# Altium footprint library SCNano-lib.PcbLib: 30 footprints (part 2 of 2)
Each footprint in its own frame and in the unit in brackets; x right, y up, seen from the top. Pads: shape width x height; smd on the part's side, far side on the other; paste and mask are expansions set on the pad; w line width, h text height; cw(c..) or ccw(c..) is an arc to the next point about the centre after c.
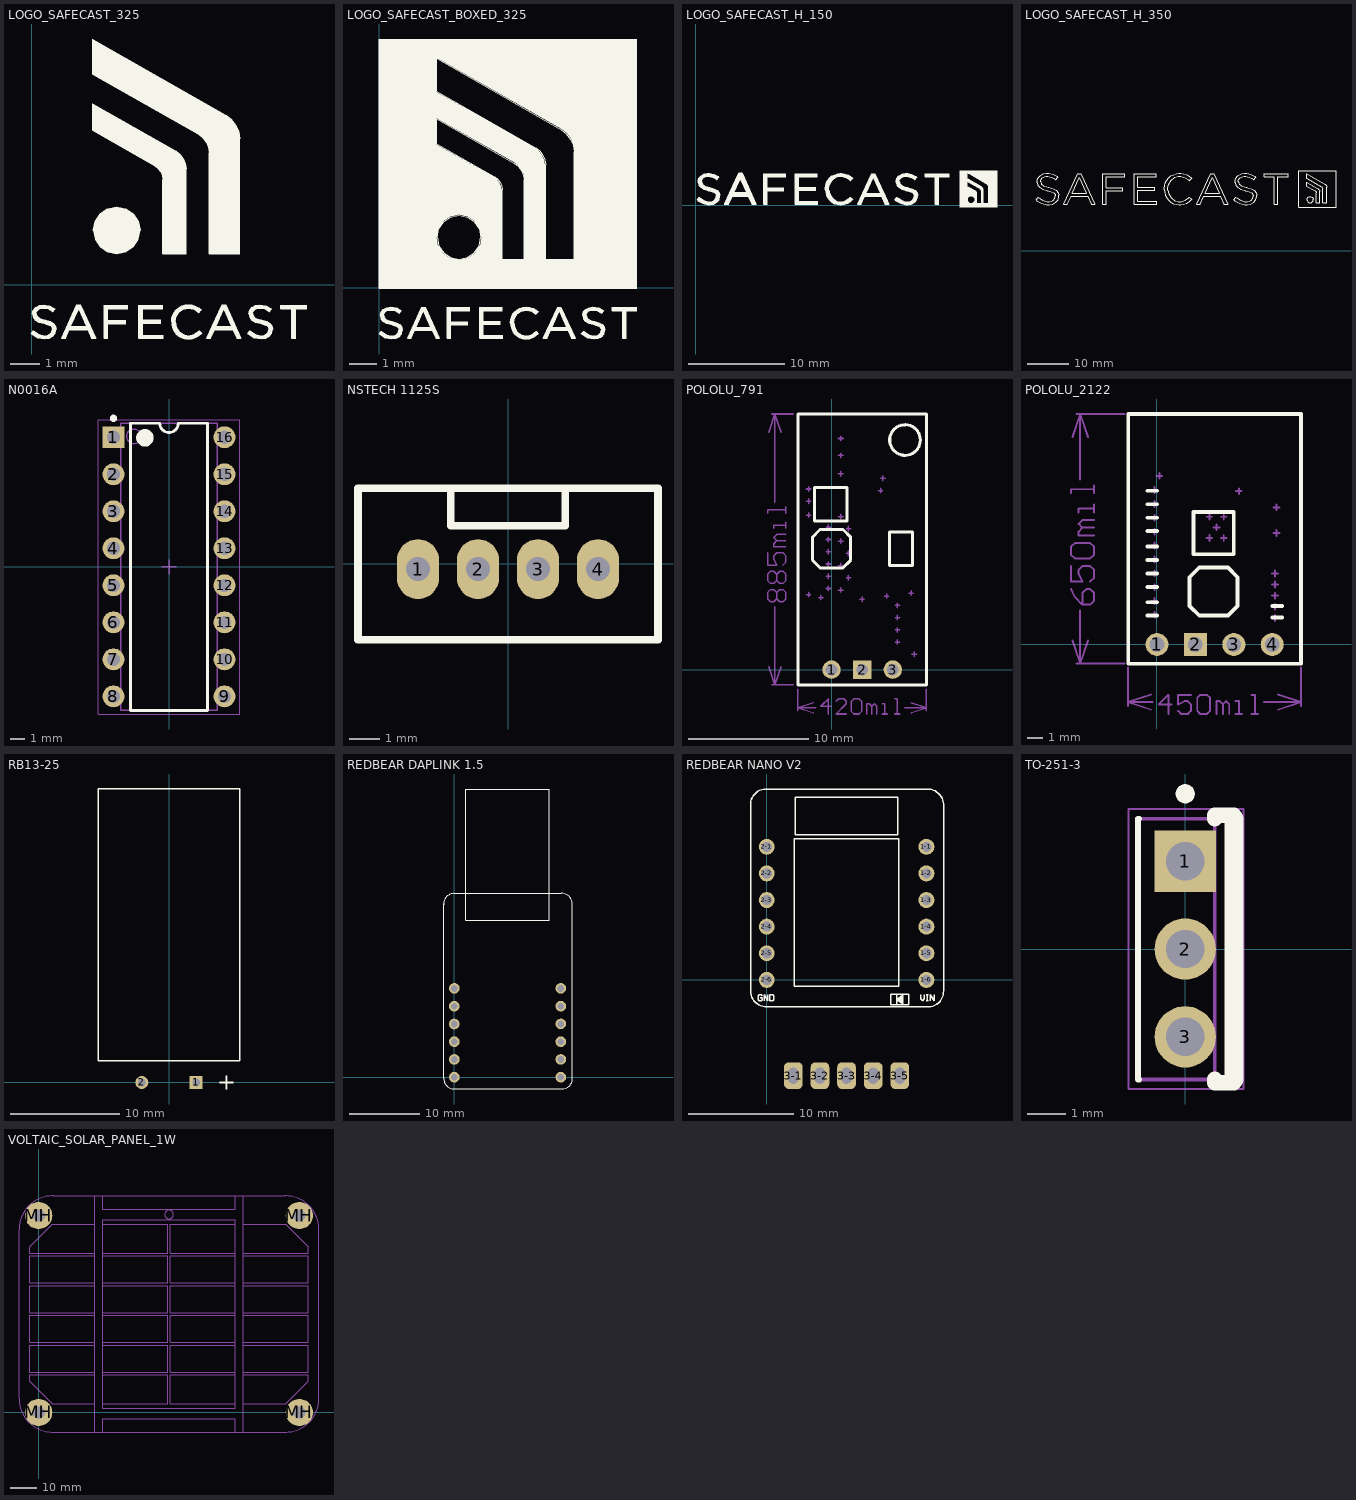
[diagram p1: the footprints below, top view; thin cyan lines are the x and y axes]

## LOGO_SAFECAST_325 [mil] "Safecast Logo appx 325 mil wide"
Top Overlay:
  drawing of 253 lines, arcs and shapes, not listed

## LOGO_SAFECAST_BOXED_325 [mil] "Boxed Safecast Logo  appx 325 mil wide"
Top Overlay:
  drawing of 255 lines, arcs and shapes, not listed

## LOGO_SAFECAST_H_150 [mil] "Safecast Logo Horizontal appx 150 tall"
Top Overlay:
  drawing of 284 lines, arcs and shapes, not listed

## LOGO_SAFECAST_H_350 [mil] "Safecast Logo Horizontal appx 350 tall"
Top Overlay:
  drawing of 318 lines, arcs and shapes, not listed

## MOLEX_146185-0100 [mil] "Cellular Quad-band Flex Antenna, 15.00mm Width, Cable Length 100.00mm"
3D body "1461850100.stp": height 235.93, standoff 151.29, extent -1653.54,-53.15 1653.54,4303.15

## N0016A [mm] "DIP, 16-Leads, Body 19.7x6.6mm, Pitch 2.54mm"
height 5.08
pads (16):
  rect 1.5x1.5 hole 0.9: 1(-3.81,8.89)
  round 1.5 hole 0.9: 2(-3.81,6.35) 3(-3.81,3.81) 4(-3.81,1.27) 5(-3.81,-1.27) 6(-3.81,-3.81) 7(-3.81,-6.35) 8(-3.81,-8.89) 9(3.81,-8.89) 10(3.81,-6.35) 11(3.81,-3.81) 12(3.81,-1.27) 13(3.81,1.27) 14(3.81,3.81) 15(3.81,6.35) 16(3.81,8.89)
Top Overlay:
  circle w0.6: c-1.65,8.85 r0.3
  circle w0.25: c-3.81,10.19 r0.125
  lines w0.2: -2.65,-9.85 2.65,-9.85 2.65,9.85 0.635,9.85 cw(c0,9.85) -0.635,9.85 -2.65,9.85 -2.65,-9.85
Mechanical 1:
  text ".Designator" at -2.921,-0.508 h1.2
Mechanical 13:
  circle w0.1: c-2.4,8.95 r0.5
  lines w0.1: -3.3,-9.85 3.3,-9.85 3.3,9.85 -3.3,9.85 -3.3,-9.85
Mechanical 15:
  lines w0.05: -4.85,-10.1 4.85,-10.1 4.85,10.1 -4.85,10.1 -4.85,-10.1
  lines w0.1: -0.5,0 0.5,0 ; 0,-0.5 0,0.5
3D body: height 5.08, standoff 0.51, extent -3.3,-9.85 3.3,9.85
3D body: height 0, standoff -1.6, extent 3.675,8.53 3.945,9.25
3D body: height 2.93, standoff 2.66, extent 3.3,8.39 3.945,9.39
3D body: height 2.66, standoff 0, extent 3.675,8.39 3.945,9.39
3D body: height 0, standoff -1.6, extent 3.675,5.99 3.945,6.71
3D body: height 2.93, standoff 2.66, extent 3.3,5.85 3.945,6.85
3D body: height 2.66, standoff 0, extent 3.675,5.85 3.945,6.85
3D body: height 0, standoff -1.6, extent 3.675,3.45 3.945,4.17
3D body: height 2.93, standoff 2.66, extent 3.3,3.31 3.945,4.31
3D body: height 2.66, standoff 0, extent 3.675,3.31 3.945,4.31
3D body: height 0, standoff -1.6, extent 3.675,0.91 3.945,1.63
3D body: height 2.93, standoff 2.66, extent 3.3,0.77 3.945,1.77
3D body: height 2.66, standoff 0, extent 3.675,0.77 3.945,1.77
3D body: height 0, standoff -1.6, extent 3.675,-1.63 3.945,-0.91
3D body: height 2.93, standoff 2.66, extent 3.3,-1.77 3.945,-0.77
3D body: height 2.66, standoff 0, extent 3.675,-1.77 3.945,-0.77
3D body: height 0, standoff -1.6, extent 3.675,-4.17 3.945,-3.45
3D body: height 2.93, standoff 2.66, extent 3.3,-4.31 3.945,-3.31
3D body: height 2.66, standoff 0, extent 3.675,-4.31 3.945,-3.31
3D body: height 0, standoff -1.6, extent 3.675,-6.71 3.945,-5.99
3D body: height 2.93, standoff 2.66, extent 3.3,-6.85 3.945,-5.85
3D body: height 2.66, standoff 0, extent 3.675,-6.85 3.945,-5.85
3D body: height 0, standoff -1.6, extent 3.675,-9.25 3.945,-8.53
3D body: height 2.93, standoff 2.66, extent 3.3,-9.39 3.945,-8.39
3D body: height 2.66, standoff 0, extent 3.675,-9.39 3.945,-8.39
3D body: height 0, standoff -1.6, extent -3.945,-9.25 -3.675,-8.53
3D body: height 2.93, standoff 2.66, extent -3.945,-9.39 -3.3,-8.39
3D body: height 2.66, standoff 0, extent -3.945,-9.39 -3.675,-8.39
3D body: height 0, standoff -1.6, extent -3.945,-6.71 -3.675,-5.99
3D body: height 2.93, standoff 2.66, extent -3.945,-6.85 -3.3,-5.85
3D body: height 2.66, standoff 0, extent -3.945,-6.85 -3.675,-5.85
3D body: height 0, standoff -1.6, extent -3.945,-4.17 -3.675,-3.45
3D body: height 2.93, standoff 2.66, extent -3.945,-4.31 -3.3,-3.31
3D body: height 2.66, standoff 0, extent -3.945,-4.31 -3.675,-3.31
3D body: height 0, standoff -1.6, extent -3.945,-1.63 -3.675,-0.91
3D body: height 2.93, standoff 2.66, extent -3.945,-1.77 -3.3,-0.77
3D body: height 2.66, standoff 0, extent -3.945,-1.77 -3.675,-0.77
3D body: height 0, standoff -1.6, extent -3.945,0.91 -3.675,1.63
3D body: height 2.93, standoff 2.66, extent -3.945,0.77 -3.3,1.77
3D body: height 2.66, standoff 0, extent -3.945,0.77 -3.675,1.77
3D body: height 0, standoff -1.6, extent -3.945,3.45 -3.675,4.17
3D body: height 2.93, standoff 2.66, extent -3.945,3.31 -3.3,4.31
3D body: height 2.66, standoff 0, extent -3.945,3.31 -3.675,4.31
3D body: height 0, standoff -1.6, extent -3.945,5.99 -3.675,6.71
3D body: height 2.93, standoff 2.66, extent -3.945,5.85 -3.3,6.85
3D body: height 2.66, standoff 0, extent -3.945,5.85 -3.675,6.85
3D body: height 0, standoff -1.6, extent -3.945,8.53 -3.675,9.25
3D body: height 2.93, standoff 2.66, extent -3.945,8.39 -3.3,9.39
3D body: height 2.66, standoff 0, extent -3.945,8.39 -3.675,9.39

## NSTECH 1125S [mm] "Boxed Square Header Socket, Used for Grove 4pin"
pads (4):
  oval 1.4x2 hole 0.8: 1(-3,-0.17) 2(-1,-0.17) 3(1,-0.17) 4(3,-0.17)
Top Overlay:
  lines w0.254: -1.905,2.53 -1.905,1.27 1.905,1.27 1.905,2.53 ; -5,-2.53 5,-2.53 5,2.53 -5,2.53 -5,-2.53
3D body "NSTech 1125S-4P.stp": height 8.1, standoff -3.5, extent -5,-2.53 5,2.53

## POLOLU_791 [mil] "Pololou 2122 - 3.3V Step-Up/Step-Down Voltage Regulator"
pads (3):
  round 60 hole 38: 1(0,0) 3(200,0)
  rect 60x60 hole 38: 2(100,0)
Top Overlay:
  circle w10: c240,750 r50
  lines w10: -110,-50 -110,835 310,835 310,-50 -110,-50 ; -62.5,357.5 -37.5,332.5 37.5,332.5 62.5,357.5 62.5,432.5 37.5,457.5 -37.5,457.5 -62.5,432.5 -62.5,357.5 ; -55,485 50,485 50,595 -55,595 -55,485 ; 190,340 265,340 265,450 190,450 190,340
Mechanical 2:
  drawing of 176 lines, arcs and shapes, not listed
3D body: height 160, standoff 100, extent -110,-50 310,835
3D body: height 220, standoff 162, extent -62.5,332.5 62.5,457.5
3D body: height 200, standoff 162, extent -55,485 50,595
3D body: height 200, standoff 162, extent 190,340 265,450
3D body: height 180, standoff 160, extent 190.4,700.11 290.01,799.91
3D body: height 200, standoff -100, extent -18.84,-18.96 19,18.97
3D body: height 200, standoff -100, extent 81.16,-18.96 119,18.97
3D body: height 200, standoff -100, extent 181.16,-18.96 219,18.97

## POLOLU_2122 [mil] "Pololou 2122 - 3.3V Step-Up/Step-Down Voltage Regulator"
pads (4):
  round 60 hole 38: 1(0,0) 3(200,0) 4(300,0)
  rect 60x60 hole 38: 2(100,0)
Top Overlay:
  lines w10: -25,75 0,75 ; -25,110 0,110 ; -25,150 0,150 ; -25,185 0,185 ; -25,220 0,220 ; -25,255 0,255 ; -25,295 0,295 ; -25,330 0,330 ; -25,365 0,365 ; -25,400 0,400 ; 300,70 325,70 ; 300,100 325,100 ; -75,-50 -75,600 375,600 375,-50 -75,-50 ; 85,100 110,75 185,75 210,100 210,175 185,200 110,200 85,175 85,100 ; 95,235 200,235 200,345 95,345 95,235
Mechanical 2:
  drawing of 154 lines, arcs and shapes, not listed
3D body: height 200, standoff -100, extent 281.16,-18.96 319,18.97
3D body: height 200, standoff -100, extent 181.16,-18.96 219,18.97
3D body: height 200, standoff -100, extent 81.16,-18.96 119,18.97
3D body: height 200, standoff -100, extent -18.84,-18.96 19,18.97
3D body: height 200, standoff 162, extent 95,235 200,345
3D body: height 220, standoff 162, extent 85,75 210,200
3D body: height 160, standoff 100, extent -75,-50 375,600

## RB13-25 [mm] "Polarized Capacitor (Radial); 2 Leads"
pads (2):
  rect 1.2x1.2 hole 0.7: 1(2.5,0)
  round 1.2 hole 0.7: 2(-2.5,0)
Top Overlay:
  lines w0.127: -6.5,2 6.5,2 6.5,27 -6.5,27 -6.5,2
  text "+" at 4.445,0.635 h1.5
3D body "Cap-13x25.stp": height 13, standoff -3.5, extent -6.5,-0.3 6.5,27

## REDBEAR DAPLINK 1.5 [mil] "DAPLink programmer for Nano V2"
pads (12):
  round 60 hole 38: 1-1(600,0) 1-2(600,100) 1-3(600,200) 1-4(600,300) 1-5(600,400) 1-6(600,500) 2-1(0,0) 2-2(0,100) 2-3(0,200) 2-4(-0.39,299.61) 2-5(-0.39,399.61) 2-6(0,500)
Top Overlay:
  lines w5: -60.51,976.95 -60.51,972.38 ; 664.68,693.86 664.68,-5.94 cw(c605.96,-7.89) 608.11,-66.61 1.22,-66.61 cw(c0.39,-5.71) -60.51,-6.54 -60.51,689.29 -60.51,972.38 ; 665.06,692.07 664.69,692.07 664.69,976.95 ccw(c604.85,975.02) 603.03,1034.86 -3.19,1034.86 ccw(c-0.61,974.96) -60.51,972.38 ; -60.51,972.38 -60.51,972.38 ; 64.8,883.11 299.8,883.11 534.8,883.11 534.8,1153.11 534.8,1623.11 64.8,1623.11 64.8,1153.11 64.8,883.11
3D body: height 390, standoff 210, extent 64.8,883.11 534.8,1623.11
3D body: height 450, standoff 390, extent -60.52,-66.61 664.69,1034.54
3D body: height 200, standoff -100, extent 580.43,480.31 618.35,518.16
3D body: height 200, standoff -100, extent 580.43,380.31 618.35,418.16
3D body: height 200, standoff -100, extent 580.43,280.31 618.35,318.16
3D body: height 200, standoff -100, extent 580.43,180.31 618.35,218.16
3D body: height 200, standoff -100, extent 580.43,80.31 618.35,118.16
3D body: height 200, standoff -100, extent 580.43,-19.69 618.35,18.16
3D body: height 200, standoff -100, extent -18.99,481.16 18.93,519.01
3D body: height 200, standoff -100, extent -18.99,381.16 18.93,419.01
3D body: height 200, standoff -100, extent -18.99,281.16 18.93,319.01
3D body: height 200, standoff -100, extent -18.99,181.16 18.93,219.01
3D body: height 200, standoff -100, extent -18.99,81.16 18.93,119.01
3D body: height 200, standoff -100, extent -18.99,-18.84 18.93,19.01
3D body: height 390, standoff 50, extent -50,-50 50,550
3D body: height 390, standoff 50, extent 550.03,-50.01 650.03,549.99
3D body: height 530, standoff 450, extent -18.99,-18.84 18.93,519.01
3D body: height 530, standoff 450, extent 581.4,-18.44 619.33,519.41
3D body: height 530, standoff 450, extent 536.04,883.11 575,1015
3D body: height 530, standoff 450, extent 24.61,883.11 63.57,1015
3D body "_ _C06SFCN.STEP": height 418, standoff -320, extent 550.03,-50.01 650.03,549.99
3D body "_ _C06SFCN.STEP": height 418, standoff -320, extent -50,-50 50,550

## REDBEAR NANO V2 [mil] "RedBear Nano V2 NRF 52832 Module"
pads (17):
  round 60 hole 38: 1-1(600,500) 1-2(600,400) 1-3(600,300) 1-4(600,200) 1-5(600,100) 1-6(600,0) 2-1(0,500) 2-2(0,400) 2-3(0,300) 2-4(0,200) 2-5(0,100) 2-6(0,0)
  rrect50% 70x100 hole 38 slot 60 at 90 deg: 3-1(100,-360) 3-2(200,-360) 3-3(300,-360) 3-4(400,-360) 3-5(500,-360)
Top Overlay:
  lines w5: -24.73,-67.52 -17.39,-67.52 -17.39,-74.86 -21.06,-78.53 -28.4,-78.53 -32.07,-74.86 -32.07,-60.18 -28.4,-56.51 -21.06,-56.51 -17.39,-60.18 ; -9.97,-78.53 -9.97,-56.51 4.71,-78.53 4.71,-56.51 ; 487.97,-90.16 487.97,-58.66 ; 495.47,-79.41 511.59,-79.41 ; 495.47,-69.41 511.59,-69.41 ; 496.88,-22.45 496.88,22.04 496.88,530.39 492.94,530.39 107.11,530.39 102.78,530.39 102.78,25.97 102.78,-24.03 496.88,-24.03 496.88,-0.21 ; 502.97,-84.41 511.59,-84.41 ; 502.97,-64.41 511.59,-64.41 ; 510.47,-89.41 511.59,-89.41 ; 510.47,-59.41 511.59,-59.41 ; 511.59,-74.41 487.97,-74.41 ; 578.17,-55.72 578.17,-70.4 585.5,-77.74 592.85,-70.4 592.85,-55.72 ; 600.26,-77.74 607.6,-77.74 ; 600.26,-55.72 607.6,-55.72 ; 603.93,-77.74 603.93,-55.72 ; 615,-77.74 615,-55.72 629.68,-77.74 629.68,-55.72 ; 487.97,-74.41 511.59,-58.66 ; 487.97,-74.41 511.59,-90.16 ; 511.59,-90.16 511.59,-58.66 ; 511.59,-90.16 511.59,-58.66 ; -60.9,-41.14 ccw(c0,-40.31) 0.83,-101.22 607.72,-101.22 ccw(c605.56,-42.5) 664.29,-40.55 664.29,659.25 ccw(c604.46,657.33) 602.64,717.17 -3.58,717.17 ccw(c-1,657.26) -60.91,654.69 -60.91,-41.14 ; 12.13,-78.53 12.13,-56.51 23.14,-56.51 26.81,-60.18 26.81,-74.86 23.14,-78.53 12.13,-78.53 ; 107.11,544.87 107.11,687 492.94,687 492.94,544.87 107.11,544.87 ; 466.31,-94.09 466.31,-54.72 533.24,-54.72 533.24,-94.09 466.31,-94.09
3D body "c-3-644457-5-e1-3d.stp": height 92, standoff -260, extent 56,-367.5 544,5
3D body: height 200, standoff -100, extent 580.43,-18.17 618.36,19.68
3D body: height 200, standoff -100, extent 580.43,81.83 618.36,119.68
3D body: height 200, standoff -100, extent 580.43,181.83 618.36,219.68
3D body: height 200, standoff -100, extent 580.43,281.83 618.36,319.68
3D body: height 200, standoff -100, extent 580.43,381.83 618.36,419.68
3D body: height 200, standoff -100, extent 580.43,481.83 618.36,519.68
3D body: height 200, standoff -100, extent -18.98,-19.01 18.94,18.84
3D body: height 200, standoff -100, extent -18.98,80.99 18.94,118.84
3D body: height 200, standoff -100, extent -18.98,180.99 18.94,218.84
3D body: height 200, standoff -100, extent -18.98,280.99 18.94,318.84
3D body: height 200, standoff -100, extent -18.98,380.99 18.94,418.84
3D body: height 200, standoff -100, extent -18.98,480.99 18.94,518.84
3D body: height 258.5, standoff 118.5, extent 107.11,544.87 492.94,687
3D body: height 208.5, standoff 118.5, extent 102.78,-24.03 496.88,530.39
3D body: height 118.5, standoff 58.5, extent -60.9,-101.22 664.66,717.17

## TO-251-3 [mm] "3-Leads, Body 6.8x2.5mm, Pitch 2.29mm"
height 9.7
pads (3):
  rect 1.6x1.6 hole 1: 1(0,2.29)
  round 1.6 hole 1: 2(0,0) 3(0,-2.29)
Top Overlay:
  circle w0.25: c0,4.05 r0.125
  lines w0.15: -1.2,-3.4 -1.23,-3.4 -1.23,3.4 -1.2,3.4
  lines w0.2: 1.2,-3.4 1.27,-3.4 ; 1.2,3.4 1.27,3.4
  lines w0.4: 0.77,-3.4 0.77,-3.49 1.27,-3.49 1.27,-3.4 ; 0.77,3.4 0.77,3.49 1.27,3.49 1.27,3.4
  lines w0.5: 1.27,-3.4 1.27,3.4
Mechanical 13:
  lines w0.1: 0.77,-3.4 0.77,3.4 ; -1.23,-3.4 -1.23,3.4 1.27,3.4 1.27,-3.4 -1.23,-3.4
Mechanical 15:
  lines w0.05: -1.48,-3.65 -1.48,3.65 1.52,3.65 1.52,-3.65 -1.48,-3.65
  lines w0.1: -0.5,0 0.5,0 ; 0,-0.5 0,0.5
3D body: height 1.6, standoff 0, extent -0.25,1.815 0.25,2.765
3D body: height 0, standoff -1.6, extent -0.25,1.91 0.25,2.67
3D body: height 1.6, standoff 0, extent -0.25,-0.475 0.25,0.475
3D body: height 0, standoff -1.6, extent -0.25,-0.38 0.25,0.38
3D body: height 1.6, standoff 0, extent -0.25,-2.765 0.25,-1.815
3D body: height 0, standoff -1.6, extent -0.25,-2.67 0.25,-1.91
3D body: height 8.8, standoff 1.6, extent -1.23,-3.4 1.27,3.4
3D body: height 9.7, standoff 8.8, extent 0.77,-2.675 1.27,2.675

## VOLTAIC_SOLAR_PANEL_1W [mm] "Voltaic 1W Solar Panel"
height 5
pads (4):
  round 10.3 hole 4.7 unplated: MH(0,0) MH(0,74.2) MH(98.2,0) MH(98.2,74.2)
Mechanical 13:
  circle w0.127: c0,74.2 r1.05
  circle w0.127: c0,74.2 r2.75
  circle w0.127: c0,0 r2.75
  circle w0.127: c98.2,0 r1.05
  circle w0.127: c0,0 r1.05
  circle w0.127: c98.2,74.2 r1.05
  circle w0.127: c49.1,74.6 r1.65
  circle w0.127: c98.2,0 r2.75
  circle w0.127: c98.2,74.2 r2.75
  lines w0.127: 21.1,3.325 5.1,3.325 -3.4,11.825 -3.4,14.2 21.1,14.2 ; 21.1,15.2 -3.4,15.2 -3.4,25.4 21.1,25.4 ; 21.1,26.4 -3.4,26.4 -3.4,36.6 21.1,36.6 ; 21.1,37.6 -3.4,37.6 -3.4,47.8 21.1,47.8 ; 21.1,48.8 -3.4,48.8 -3.4,59 21.1,59 ; 21.1,60 -3.4,60 -3.4,62.375 5.1,70.875 21.1,70.875 ; 24.1,3.325 48.6,3.325 48.6,14.2 24.1,14.2 ; 24.1,15.2 48.6,15.2 48.6,25.4 24.1,25.4 ; 24.1,26.4 48.6,26.4 48.6,36.6 24.1,36.6 ; 24.1,37.6 48.6,37.6 48.6,47.8 24.1,47.8 ; 24.1,48.8 48.6,48.8 48.6,59 24.1,59 ; 24.1,60 48.6,60 48.6,70.875 24.1,70.875 ; 74.1,3.325 49.6,3.325 49.6,14.2 74.1,14.2 ; 74.1,15.2 49.6,15.2 49.6,25.4 74.1,25.4 ; 74.1,26.4 49.6,26.4 49.6,36.6 74.1,36.6 ; 74.1,37.6 49.6,37.6 49.6,47.8 74.1,47.8 ; 74.1,48.8 49.6,48.8 49.6,59 74.1,59 ; 74.1,60 49.6,60 49.6,70.875 74.1,70.875 ; 77.1,3.325 93.1,3.325 101.6,11.825 101.6,14.2 77.1,14.2 ; 77.1,15.2 101.6,15.2 101.6,25.4 77.1,25.4 ; 77.1,26.4 101.6,26.4 101.6,36.6 77.1,36.6 ; 77.1,37.6 101.6,37.6 101.6,47.8 77.1,47.8 ; 77.1,48.8 101.6,48.8 101.6,59 77.1,59 ; 77.1,60 101.6,60 101.6,62.375 93.1,70.875 77.1,70.875 ; 21.1,-7.4 21.1,81.6 ; 21.1,-7.4 5.3,-7.4 cw(c5.3,5.3) -7.4,5.3 -7.4,68.9 cw(c5.3,68.9) 5.3,81.6 21.1,81.6 ; 21.1,-7.4 24.1,-7.4 ; 21.1,81.6 24.1,81.6 ; 24.1,-7.4 24.1,-2.4 74.1,-2.4 74.1,-7.4 ; 24.1,-7.4 74.1,-7.4 ; 24.1,81.6 24.1,76.6 74.1,76.6 74.1,81.6 ; 24.1,81.6 74.1,81.6 ; 74.1,-7.4 77.1,-7.4 ; 74.1,81.6 77.1,81.6 ; 77.1,-7.4 92.9,-7.4 ccw(c92.9,5.3) 105.6,5.3 105.6,68.9 ccw(c92.9,68.9) 92.9,81.6 77.1,81.6 ; 77.1,-7.4 77.1,81.6 ; 24.1,1.6 74.1,1.6 74.1,72.6 24.1,72.6 24.1,1.6
3D body "Voltaic1W.stp": height 6.68, standoff -6.11, extent -7.4,-7.4 105.6,81.6
3D body "Volatic Panel T-Nut.stp": height 2.8, standoff -2.85, extent -5,-5 5,5
3D body "Volatic Panel T-Nut.stp": height 2.8, standoff -2.85, extent 93.2,-5 103.2,5
3D body "Volatic Panel T-Nut.stp": height 2.8, standoff -2.85, extent 93.2,69.2 103.2,79.2
3D body "Volatic Panel T-Nut.stp": height 2.8, standoff -2.85, extent -5,69.2 5,79.2